# EAGLE library part 1663969 (library 1663969)
RJ45 PCB connector, number of positions: 8, 100 Mbps Source: Datasheet <https://www.phoenixcontact.com/en-ae/products/rj45-pcb-connector-cuc-ib4m-j1st-at-r4t-p-1663969>
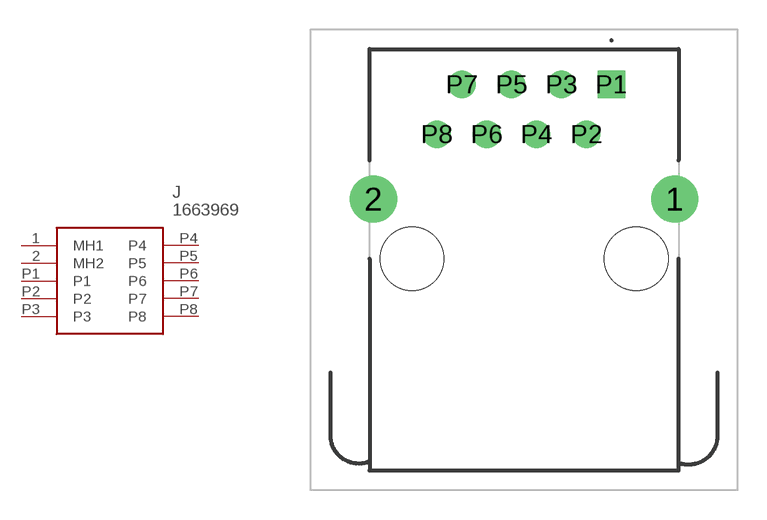
[diagram p0: symbol with the pads of 1663969; footprint 1663969]

Designator prefix J

## 1663969 (Description: RJ45 PCB connector, number of positions: 8, 100 Mbps; Height: 15.98mm; Manufacturer_Name: Phoenix Contact; Manufacturer_Part_Number: 1663969)  [1663969]
1  MH1
2  MH2
P1  P1
P2  P2
P3  P3
P4  P4
P5  P5
P6  P6
P7  P7
P8  P8

## Footprint 1663969 (pad centres in mm)
1663969-1
drill 1.6 pad 2.4: 1 3.23,-5.84; 2 -12.12,-5.84
drill 0.9 pad 1.4 square: P1 0,0
drill 0.9 pad 1.4: P2 -1.27,-2.54; P3 -2.54,0; P4 -3.81,-2.54; P5 -5.08,0; P6 -6.35,-2.54; P7 -7.62,0; P8 -8.89,-2.54
hole 3.25 at 1.27,-8.89
hole 3.25 at -10.16,-8.89